# Altium footprint library OKmePCBLibrary.PcbLib: 194 footprints (part 8 of 13)
Each footprint in its own frame and in the unit in brackets; x right, y up, seen from the top. Pads: shape width x height; smd on the part's side, far side on the other; paste and mask are expansions set on the pad; w line width, h text height; cw(c..) or ccw(c..) is an arc to the next point about the centre after c.
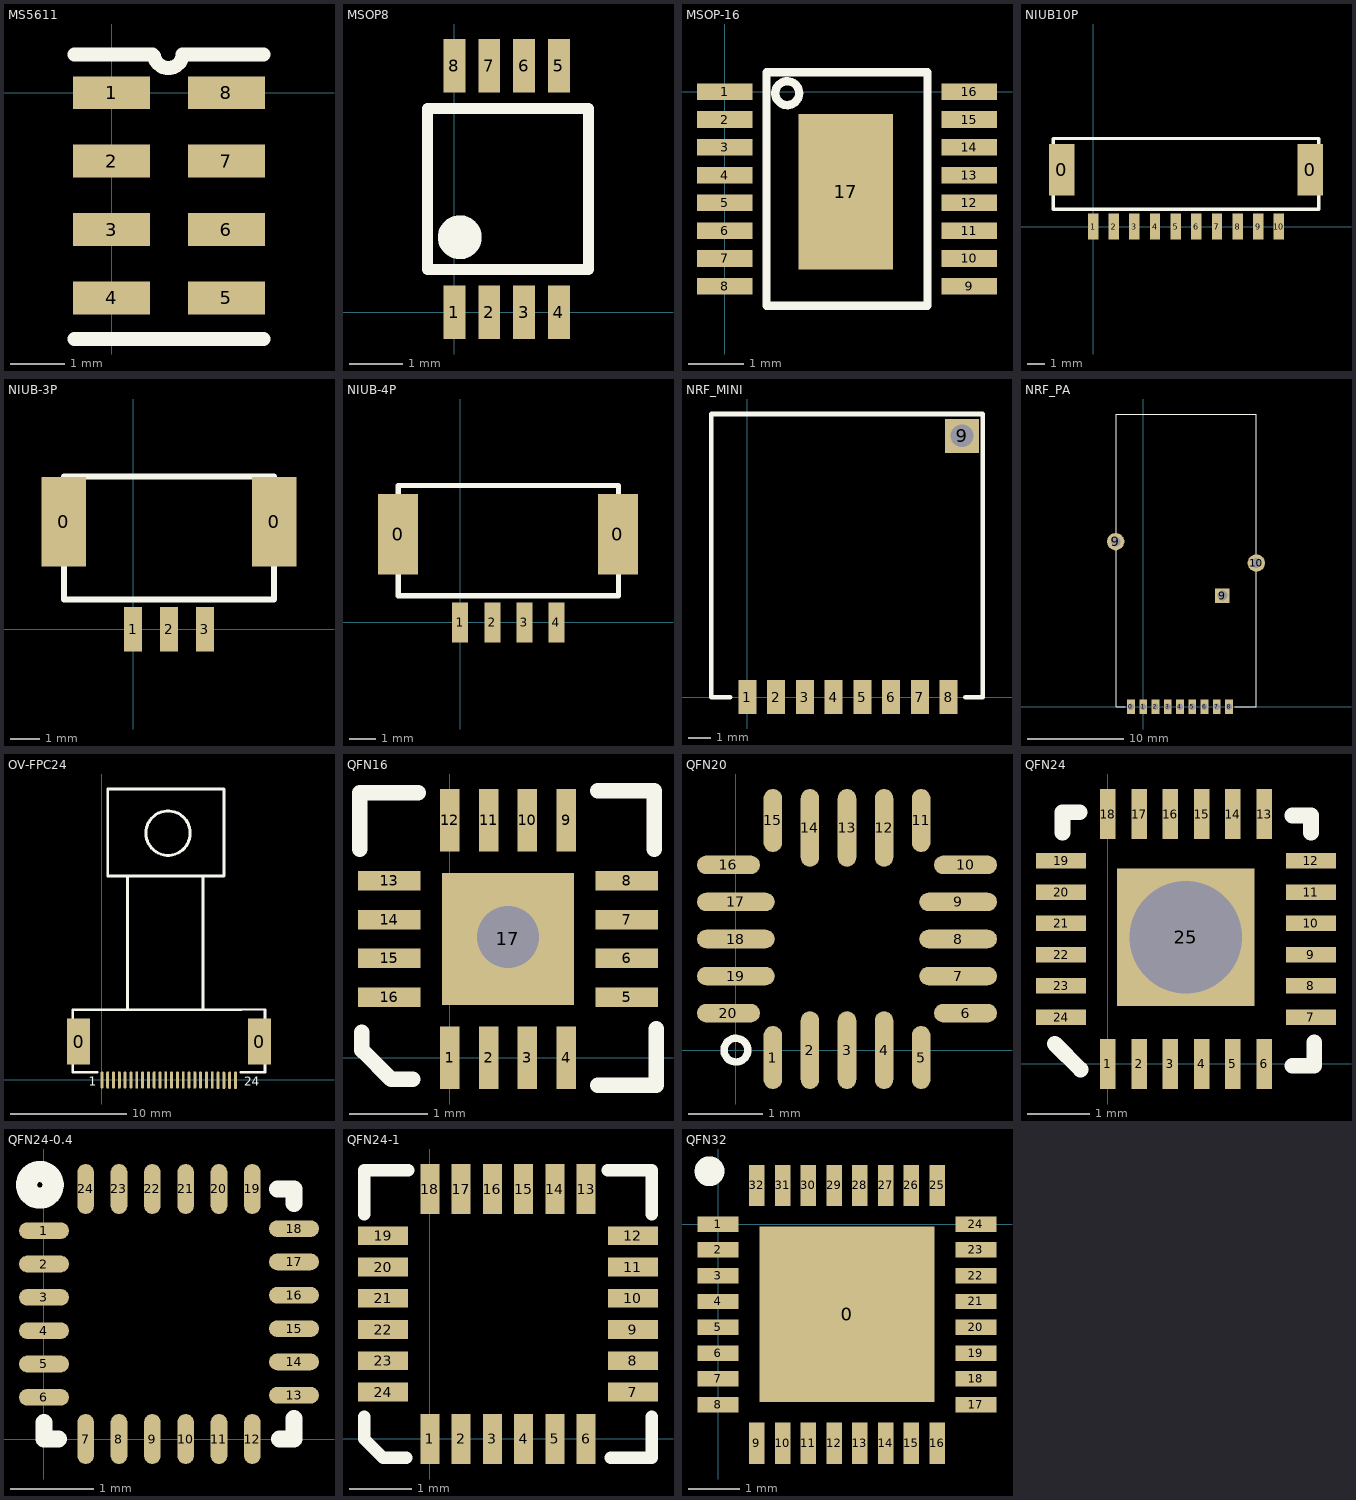
[diagram p7: the footprints below, top view; thin cyan lines are the x and y axes]

## MS5611 [mm]
pads (8):
  rect 1.4x0.6 smd: 1(0,0) 2(0,-1.25) 3(0,-2.5) 4(0,-3.75) 5(2.1,-3.75) 6(2.1,-2.5) 7(2.1,-1.25) 8(2.1,0)
Top Overlay:
  lines w0.254: -0.675,-4.5 2.775,-4.5 ; -0.675,0.7 0.75,0.7 ; 0.775,0.675 ccw(c1.037,0.715) 1.3,0.675 ; 1.3,0.7 2.775,0.7

## MSOP8 [mm]
pads (8):
  rect 0.41x1 smd: 1(0,0) 2(0.65,0) 3(1.3,0) 4(1.95,0) 5(1.95,4.6) 6(1.3,4.6) 7(0.65,4.6) 8(0,4.6)
Top Overlay:
  circle w0.254: c0.1,1.4 r0.283
  rectangle: -0.1,1.2 0.3,1.7
  lines w0.203: -0.5,0.8 -0.5,3.8 2.5,3.8 2.5,0.8 -0.5,0.8

## MSOP-16 [mm]
pads (17):
  rect 1x0.3 smd: 1(0,0) 2(0,-0.5) 3(0,-1) 4(0,-1.5) 5(0,-2) 6(0,-2.5) 7(0,-3) 8(0,-3.5) 9(4.4,-3.5) 10(4.4,-3) 11(4.4,-2.5) 12(4.4,-2) 13(4.4,-1.5) 14(4.4,-1) 15(4.4,-0.5) 16(4.4,0)
  rect 1.7x2.8 smd: 17(2.175,-1.8)
Top Overlay:
  circle w0.15: c1.125,-0.025 r0.215
  lines w0.15: 0.75,-3.85 3.65,-3.85 3.65,0.35 0.75,0.35 0.75,-3.85

## NIUB10P [mm]
pads (12):
  rect 1.5x3 smd: 0(-1.82,3.3) 0(12.62,3.3)
  rect 0.6x1.5 smd: 1(0,0) 2(1.2,0) 3(2.4,0) 4(3.6,0) 5(4.8,0) 6(6,0) 7(7.2,0) 8(8.4,0) 9(9.6,0) 10(10.8,0)
Top Overlay:
  lines w0.2: -2.32,1 13.125,1 13.125,5.12 -2.32,5.12 -2.32,1

## NIUB-3P [mm]
pads (5):
  rect 1.5x3 smd: 0(-2.32,3.6) 0(4.72,3.6)
  rect 0.6x1.5 smd: 1(0,0) 2(1.2,0) 3(2.4,0)
Top Overlay:
  lines w0.2: 4.7,1 -2.32,1 -2.32,5.12 4.7,5.12 ; 4.72,1 4.72,5.12

## NIUB-4P [mm]
pads (6):
  rect 1.5x3 smd: 0(-2.32,3.3) 0(5.895,3.3)
  rect 0.6x1.5 smd: 1(0,0) 2(1.2,0) 3(2.4,0) 4(3.6,0)
Top Overlay:
  lines w0.2: -2.32,1 -2.32,5.12 5.92,5.12 5.92,1 -2.32,1

## NRF_MINI [mm]
pads (9):
  rect 0.8x1.5 smd: 1(0,0) 2(1.27,0) 3(2.54,0) 4(3.81,0) 5(5.08,0) 6(6.35,0) 7(7.62,0) 8(8.89,0)
  rect 1.5x1.5 hole 1: 9(9.481,11.532)
Top Overlay:
  lines w0.2: -0.75,0 -1.6,0 -1.6,12.5 10.4,12.5 10.4,0 9.625,0

## NRF_PA [mm]
pads (12):
  rect 0.8x1.5 hole 0.65: 0(-1.27,0) 1(0,0) 2(1.27,0) 3(2.54,0) 4(3.81,0) 5(5.08,0) 6(6.35,0) 7(7.62,0) 8(8.89,0)
  round 1.8 hole 1: 9(-2.844,17.084) 10(11.708,14.87)
  rect 1.5x1.5 hole 1: 9(8.206,11.507)
Top Overlay:
  lines w0.1: -1.875,0.006 -2.808,0.006 -2.808,30.297 11.692,30.297 11.692,0.006 9.485,0.006

## OSD [mm]

## OV-FPC24 [mm]
pads (26):
  rect 2x4 smd: 0(-2.005,3.314) 0(13.559,3.314)
  oval 0.25x1.5 smd: 1(0,0) 2(0.5,0) 3(1,0) 4(1.5,0) 5(2,0) 6(2.5,0) 7(3,0) 8(3.5,0) 9(4,0) 10(4.5,0) 11(5,0) 12(5.5,0) 13(6,0) 14(6.5,0) 15(7,0) 16(7.5,0) 17(8,0) 18(8.5,0) 19(9,0) 20(9.5,0) 21(10,-0.025) 22(10.5,-0.025) 23(11,-0.025) 24(11.5,-0.025)
Top Overlay:
  circle w0.254: c5.693,21.249 r1.91
  lines w0.2: -2.5,0.668 -2.5,6.053 ; -2.498,0.655 -2.498,6.039 ; -2.489,0.668 -0.432,0.668 ; -2.489,6.068 11.989,6.068 ; -2.487,0.655 -0.379,0.655 ; -2.487,6.055 11.991,6.055 ; -2.45,6.069 -0.772,6.069 ; -0.747,6.069 14.056,6.069 ; 11.931,0.668 14.039,0.668 ; 11.958,0.655 14.016,0.655 ; 14.027,0.655 14.027,6.04 ; 14.05,0.669 14.05,6.053
  lines w0.254: 0.503,25.049 10.503,25.049 ; 2.203,6.049 2.203,17.449 ; 8.703,6.049 8.703,17.549 ; 0.503,24.949 0.503,17.549 10.503,17.549 10.503,24.949 ; 0.503,24.949 0.503,24.949 ; 10.503,24.949 10.503,24.949
  text "1" at -1.15,-0.475 h0.76
  text "24" at 12.25,-0.475 h0.76

## QFN16 [mm]
pads (17):
  rect 0.25x0.8 smd: 1(0,0) 2(0.5,0) 3(1,0) 4(1.5,0) 9(1.5,3.05) 10(1,3.05) 11(0.5,3.05) 12(0,3.05)
  rect 0.8x0.25 smd: 5(2.275,0.775) 6(2.275,1.275) 7(2.275,1.775) 8(2.275,2.275) 13(-0.775,2.275) 14(-0.775,1.775) 15(-0.775,1.275) 16(-0.775,0.775)
  rect 1.7x1.7 smd: 17(0.75,1.525)
via 0.75,1.55 diameter 1.5 hole 0.8
Top Overlay:
  lines w0.2: -1.15,2.675 -1.15,3.4 -0.4,3.4 ; -1.125,0.1 -1.125,0.325 ; -1.112,0.087 -0.75,-0.275 -0.475,-0.275 ; 1.9,-0.35 2.65,-0.35 2.65,0.375 ; 1.9,3.425 2.625,3.425 2.625,2.675

## QFN20 [mm]
pads (20):
  oval 0.25x0.85 smd: 1(0.5,-0.1) 5(2.5,-0.1) 11(2.5,3.1) 15(0.5,3.1)
  oval 0.25x1.05 smd: 2(1,0) 3(1.5,0) 4(2,0) 12(2,3) 13(1.5,3) 14(1,3)
  oval 0.85x0.25 smd: 6(3.1,0.5) 10(3.1,2.5) 16(-0.1,2.5) 20(-0.1,0.5)
  oval 1.05x0.25 smd: 7(3,1) 8(3,1.5) 9(3,2) 17(0,2) 18(0,1.5) 19(0,1)
Top Overlay:
  circle w0.1: c0,0 r0.16

## QFN24 [mm]
pads (25):
  rect 0.25x0.8 smd: 1(0,0) 2(0.5,0) 3(1,0) 4(1.5,0) 5(2,0) 6(2.5,0) 13(2.5,4) 14(2,4) 15(1.5,4) 16(1,4) 17(0.5,4) 18(0,4)
  rect 0.8x0.25 smd: 7(3.25,0.75) 8(3.25,1.25) 9(3.25,1.75) 10(3.25,2.25) 11(3.25,2.75) 12(3.25,3.25) 19(-0.75,3.25) 20(-0.75,2.75) 21(-0.75,2.25) 22(-0.75,1.75) 23(-0.75,1.25) 24(-0.75,0.75)
  rect 2.2x2.2 smd: 25(1.25,2.025)
via 1.25,2.025 diameter 2.2 hole 1.8
Top Overlay:
  lines w0.25: -0.85,0.325 -0.438,-0.088 ; -0.725,3.7 -0.725,4.025 -0.45,4.025 ; 2.95,-0.025 3.3,-0.025 3.3,0.35 ; 2.95,3.975 3.25,3.975 ; 3.25,3.7 3.25,3.975 ; 3.25,3.975 3.25,3.975

## QFN24-0.4 [mm]
pads (24):
  oval 0.6x0.2 smd: 1(0,2.5) 2(0,2.1) 3(0,1.7) 4(0,1.3) 5(0,0.9) 6(0,0.5) 13(3,0.525) 14(3,0.925) 15(3,1.325) 16(3,1.725) 17(3,2.125) 18(3,2.525)
  oval 0.2x0.6 smd: 7(0.5,0) 8(0.9,0) 9(1.3,0) 10(1.7,0) 11(2.1,0) 12(2.5,0) 19(2.5,3) 20(2.1,3) 21(1.7,3) 22(1.3,3) 23(0.9,3) 24(0.5,3)
Top Overlay:
  circle w0.254: c-0.05,3.05 r0.16
  lines w0.2: 0,0.2 0,0 0.175,0 ; 2.8,3 3,3 3,2.825 ; 2.825,0 3,0 3,0.25

## QFN24-1 [mm]
pads (24):
  rect 0.3x0.8 smd: 1(0,0) 2(0.5,0) 3(1,0) 4(1.5,0) 5(2,0) 6(2.5,0) 13(2.5,4) 14(2,4) 15(1.5,4) 16(1,4) 17(0.5,4) 18(0,4)
  rect 0.8x0.3 smd: 7(3.25,0.75) 8(3.25,1.25) 9(3.25,1.75) 10(3.25,2.25) 11(3.25,2.75) 12(3.25,3.25) 19(-0.75,3.25) 20(-0.75,2.75) 21(-0.75,2.25) 22(-0.75,1.75) 23(-0.75,1.25) 24(-0.75,0.75)
Top Overlay:
  lines w0.2: -1.05,0.356 -1.05,0 -0.75,-0.3 -0.381,-0.3 ; -1.05,3.6 -1.05,4.3 -0.35,4.3 ; 2.85,4.3 3.55,4.3 3.55,3.6 ; 2.896,-0.3 3.55,-0.3 3.55,0.356

## QFN32 [mm]
pads (33):
  rect 3.4x3.4 smd: 0(2.5,-1.75)
  rect 0.8x0.3 smd: 1(0,0) 2(0,-0.5) 3(0,-1) 4(0,-1.5) 5(0,-2) 6(0,-2.5) 7(0,-3) 8(0,-3.5) 17(5,-3.5) 18(5,-3) 19(5,-2.5) 20(5,-2) 21(5,-1.5) 22(5,-1) 23(5,-0.5) 24(5,0)
  rect 0.3x0.8 smd: 9(0.75,-4.25) 10(1.25,-4.25) 11(1.75,-4.25) 12(2.25,-4.25) 13(2.75,-4.25) 14(3.25,-4.25) 15(3.75,-4.25) 16(4.25,-4.25) 25(4.25,0.75) 26(3.75,0.75) 27(3.25,0.75) 28(2.75,0.75) 29(2.25,0.75) 30(1.75,0.75) 31(1.25,0.75) 32(0.75,0.75)
Top Overlay:
  circle w0.3: c-0.165,1.025 r0.14